# Altium footprint library LM317-223-4_L6.5-W3.5-P2.30-LS7.0-BR.PcbLib: 1 footprints
Each footprint in its own frame and in the unit in brackets; x right, y up, seen from the top. Pads: shape width x height; smd on the part's side, far side on the other; paste and mask are expansions set on the pad; w line width, h text height; cw(c..) or ccw(c..) is an arc to the next point about the centre after c.
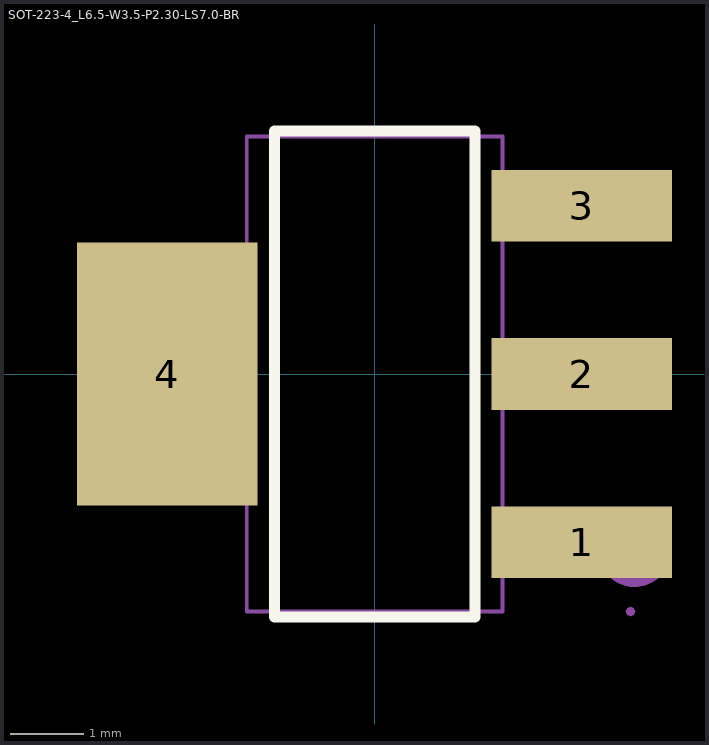
[diagram p0: the footprint, top view; thin cyan lines are the x and y axes]

## SOT-223-4_L6.5-W3.5-P2.30-LS7.0-BR [mm]
pads (4):
  rect 2.47x0.98 smd: 1(2.835,-2.3) 2(2.835,0) 3(2.835,2.3)
  rect 2.47x3.6 smd: 4(-2.835,0)
Top Overlay:
  lines w0.152: -1.371,-3.326 -1.371,3.326 1.371,3.326 1.371,-3.326 -1.371,-3.326
Mechanical 6:
  circle w0.5: c3.556,-2.413 r0.25
Mechanical 15:
  region: 3.565,-3.25 3.546,-3.204 3.5,-3.185 3.454,-3.204 3.435,-3.25 3.454,-3.296 3.5,-3.315 3.546,-3.296 3.565,-3.25
  region: 2.55,-2.65 2.55,-1.95 3.5,-1.95 3.5,-2.65
  region: 1.74,-2.65 1.74,-1.95 2.56,-1.95 2.56,-2.65
  region: 2.55,-0.35 2.55,0.35 3.5,0.35 3.5,-0.35
  region: 1.74,-0.35 1.74,0.35 2.56,0.35 2.56,-0.35
  region: 2.55,1.95 2.55,2.65 3.5,2.65 3.5,1.95
  region: 1.74,1.95 1.74,2.65 2.56,2.65 2.56,1.95
  region: -2.55,-1.5 -2.55,1.5 -3.5,1.5 -3.5,-1.5
  region: -2.56,-1.5 -2.56,1.5 -1.74,1.5 -1.74,-1.5
  lines w0.051: -1.75,-3.25 -1.75,3.25 1.75,3.25 1.75,-3.25 -1.75,-3.25